# EAGLE library part CSD17304Q3 (library Eagle_CAD_parts)
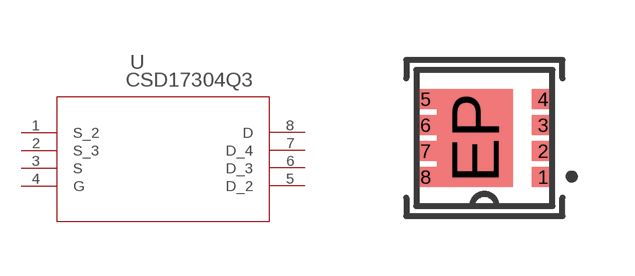
[diagram p22: symbol with the pads of DQG8; footprint DQG8]

Designator prefix U

## CSD17304Q3 (MANUFACTURER_PART_NUMBER: CSD17304Q3; VENDOR: Texas Instruments)  [DQG8]
1  S_2  pas
2  S_3  pas
3  S  pas
4  G  pas
5  D_2  pas
6  D_3  pas
7  D_4  pas
8  D  pas

## Footprint DQG8 (pad centres in mm)
smd 0.56 x 0.5: 1 1.47,-0.975; 2 1.47,-0.325; 3 1.47,0.325; 4 1.47,0.975; 5 -1.47,0.975; 6 -1.47,0.325; 7 -1.47,-0.325; 8 -1.47,-0.975
smd 1.9 x 2.45: EP -0.239,0